# Altium schematic symbol library CHS-04TA.SchLib: 1 symbol
Pins are listed as number, name and electrical type; pins without a type are passive.

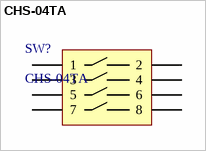
[diagram p0: symbol CHS-04TA]

## CHS-04TA
designator SW?
SWITCH DIP 4-POS SLIDE SMD 6V; Manufacturer: Copal Electronics Inc; Circuit: SPST; Number of Positions: 4; Contact Rating @ Voltage: 0.1A @ 6VDC; Actuator Type: Standard; Actuator Level: Flush; Washable: Yes; Supplier 1: Digi-Key; Manufacturer Part Number: CHS-04TA; RoHS: RoHS Compliant; Category: Switches; Stock 1: 2000; Pricing 1: 500=1.33876, 1000=1.1475, 5000=1.05188 (USD); Mounting Type: Surface Mount; Orientation: Top Actuated; ComponentLink1URL: http://copal-electronics.info/en/0008e/0267f.pdf; ComponentLink1Description: http://copal-electronics.info/en/0008e/0267f.pdf; Supplier Part Number 1: 563-1007-2-ND
footprint CHS-04A1
pins: 1, 2, 3, 4, 5, 6, 7, 8